# Altium footprint library ElectroPlantoE.PcbLib: 18 footprints (part 2 of 2)
Each footprint in its own frame and in the unit in brackets; x right, y up, seen from the top. Pads: shape width x height; smd on the part's side, far side on the other; paste and mask are expansions set on the pad; w line width, h text height; cw(c..) or ccw(c..) is an arc to the next point about the centre after c.
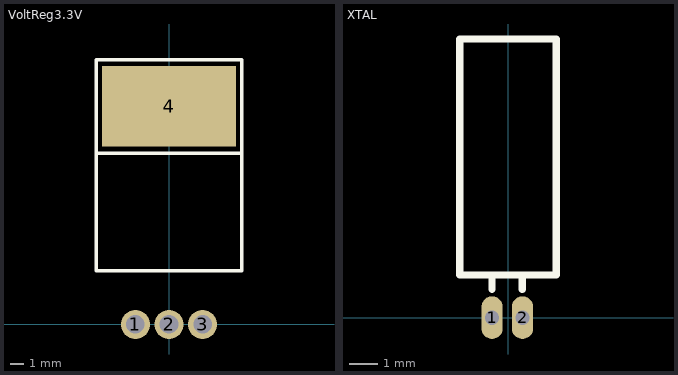
[diagram p1: the footprints below, top view; thin cyan lines are the x and y axes]

## VoltReg3.3V [mm]
height 1.1
pads (4):
  round 2.2 hole 1.4: 1(-2.54,0) 2(0,0) 3(2.54,0)
  rect 10.16x6.1 smd: 4(0,16.5)
Top Overlay:
  lines w0.254: -5.5,12.95 5.5,12.95 ; -5.5,4.06 -5.5,20 5.5,20 5.5,4.06 -5.5,4.06

## XTAL [mm]
pads (2):
  oval 0.75x1.5 hole 0.5: 1(-0.56,0) 2(0.51,0)
Top Overlay:
  lines w0.254: -1.7,9.75 -1.7,1.5 -0.85,1.5 0.85,1.5 1.7,1.5 1.7,9.75 ; -1.7,9.8 1.7,9.8 ; -0.56,1 -0.56,1.5 ; 0.5,1 0.5,1.5